# EAGLE library part XC3S250/500E-PQ208 (library SparkFun)
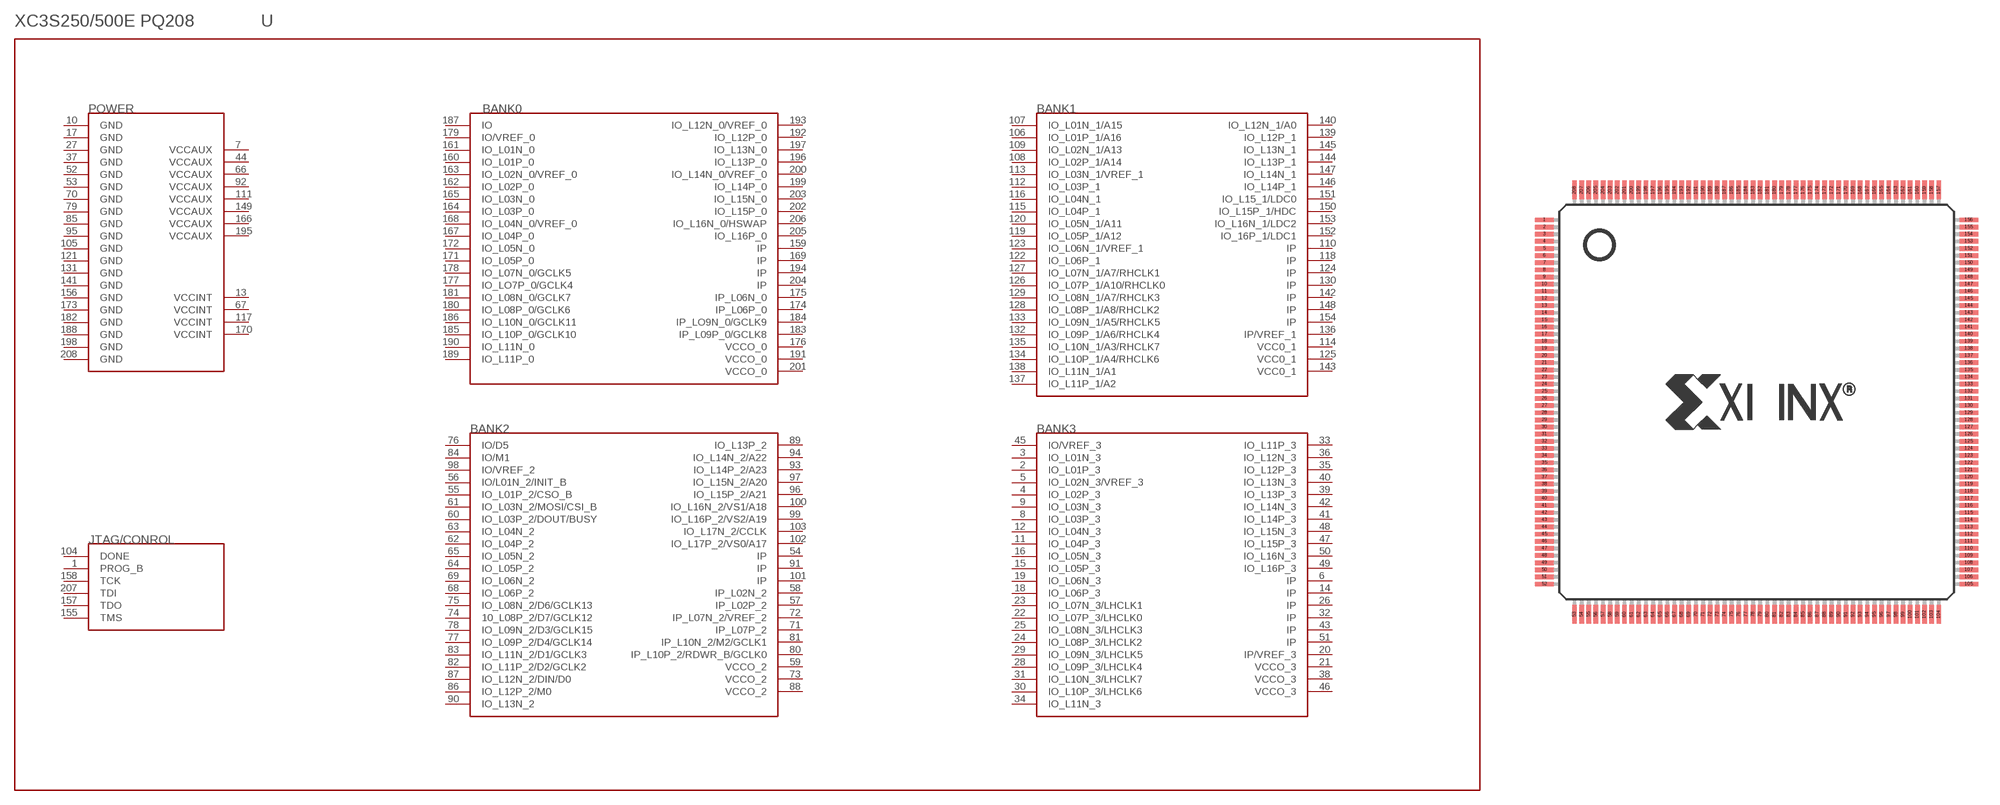
[diagram p112: symbol with the pads of PQ208; footprint PQ208]

Designator prefix -

## XC3S250/500E-PQ208  [PQ208]
1  PROG_B
2  IO_L01P_3
3  IO_L01N_3
4  IO_L02P_3
5  IO_L02N_3/VREF_3
6  IP
7  VCCAUX
8  IO_L03P_3
9  IO_L03N_3
10  GND
11  IO_L04P_3
12  IO_L04N_3
13  VCCINT
14  IP
15  IO_L05P_3
16  IO_L05N_3
17  GND
18  IO_L06P_3
19  IO_L06N_3
20  IP/VREF_3
21  VCCO_3
22  IO_L07P_3/LHCLK0
23  IO_L07N_3/LHCLK1
24  IO_L08P_3/LHCLK2
25  IO_L08N_3/LHCLK3
26  IP
27  GND
28  IO_L09P_3/LHCLK4
29  IO_L09N_3/LHCLK5
30  IO_L10P_3/LHCLK6
31  IO_L10N_3/LHCLK7
32  IP
33  IO_L11P_3
34  IO_L11N_3
35  IO_L12P_3
36  IO_L12N_3
37  GND
38  VCCO_3
39  IO_L13P_3
40  IO_L13N_3
41  IO_L14P_3
42  IO_L14N_3
43  IP
44  VCCAUX
45  IO/VREF_3
46  VCCO_3
47  IO_L15P_3
48  IO_L15N_3
49  IO_L16P_3
50  IO_L16N_3
51  IP
52  GND
53  GND
54  IP
55  IO_L01P_2/CSO_B
56  IO/L01N_2/INIT_B
57  IP_L02P_2
58  IP_L02N_2
59  VCCO_2
60  IO_L03P_2/DOUT/BUSY
61  IO_L03N_2/MOSI/CSI_B
62  IO_L04P_2
63  IO_L04N_2
64  IO_L05P_2
65  IO_L05N_2
66  VCCAUX
67  VCCINT
68  IO_L06P_2
69  IO_L06N_2
70  GND
71  IP_L07P_2
72  IP_L07N_2/VREF_2
73  VCCO_2
74  10_L08P_2/D7/GCLK12
75  IO_L08N_2/D6/GCLK13
76  IO/D5
77  IO_L09P_2/D4/GCLK14
78  IO_L09N_2/D3/GCLK15
79  GND
80  IP_L10P_2/RDWR_B/GCLK0
81  IP_L10N_2/M2/GCLK1
82  IO_L11P_2/D2/GCLK2
83  IO_L11N_2/D1/GCLK3
84  IO/M1
85  GND
86  IO_L12P_2/M0
87  IO_L12N_2/DIN/D0
88  VCCO_2
89  IO_L13P_2
90  IO_L13N_2
91  IP
92  VCCAUX
93  IO_L14P_2/A23
94  IO_L14N_2/A22
95  GND
96  IO_L15P_2/A21
97  IO_L15N_2/A20
98  IO/VREF_2
99  IO_L16P_2/VS2/A19
100  IO_L16N_2/VS1/A18
101  IP
102  IO_L17P_2/VS0/A17
103  IO_L17N_2/CCLK
104  DONE
105  GND
106  IO_L01P_1/A16
107  IO_L01N_1/A15
108  IO_L02P_1/A14
109  IO_L02N_1/A13
110  IP
111  VCCAUX
112  IO_L03P_1
113  IO_L03N_1/VREF_1
114  VCC0_1
115  IO_L04P_1
116  IO_L04N_1
117  VCCINT
118  IP
119  IO_L05P_1/A12
120  IO_L05N_1/A11
121  GND
122  IO_L06P_1
123  IO_L06N_1/VREF_1
124  IP
125  VCC0_1
126  IO_L07P_1/A10/RHCLK0
127  IO_L07N_1/A7/RHCLK1
128  IO_L08P_1/A8/RHCLK2
129  IO_L08N_1/A7/RHCLK3
130  IP
131  GND
132  IO_L09P_1/A6/RHCLK4
133  IO_L09N_1/A5/RHCLK5
134  IO_L10P_1/A4/RHCLK6
135  IO_L10N_1/A3/RHCLK7
136  IP/VREF_1
137  IO_L11P_1/A2
138  IO_L11N_1/A1
139  IO_L12P_1
140  IO_L12N_1/A0
141  GND
142  IP
143  VCC0_1
144  IO_L13P_1
145  IO_L13N_1
146  IO_L14P_1
147  IO_L14N_1
148  IP
149  VCCAUX
150  IO_L15P_1/HDC
151  IO_L15_1/LDC0
152  IO_16P_1/LDC1
153  IO_L16N_1/LDC2
154  IP
155  TMS
156  GND
157  TDO
158  TCK
159  IP
160  IO_L01P_0
161  IO_L01N_0
162  IO_L02P_0
163  IO_L02N_0/VREF_0
164  IO_L03P_0
165  IO_L03N_0
166  VCCAUX
167  IO_L04P_0
168  IO_L04N_0/VREF_0
169  IP
170  VCCINT
171  IO_L05P_0
172  IO_L05N_0
173  GND
174  IP_L06P_0
175  IP_L06N_0
176  VCCO_0
177  IO_LO7P_0/GCLK4
178  IO_L07N_0/GCLK5
179  IO/VREF_0
180  IO_L08P_0/GCLK6
181  IO_L08N_0/GCLK7
182  GND
183  IP_L09P_0/GCLK8
184  IP_LO9N_0/GCLK9
185  IO_L10P_0/GCLK10
186  IO_L10N_0/GCLK11
187  IO
188  GND
189  IO_L11P_0
190  IO_L11N_0
191  VCCO_0
192  IO_L12P_0
193  IO_L12N_0/VREF_0
194  IP
195  VCCAUX
196  IO_L13P_0
197  IO_L13N_0
198  GND
199  IO_L14P_0
200  IO_L14N_0/VREF_0
201  VCCO_0
202  IO_L15P_0
203  IO_L15N_0
204  IP
205  IO_L16P_0
206  IO_L16N_0/HSWAP
207  TDI
208  GND

## Footprint PQ208 (pad centres in mm)
smd 1.3 x 0.32: 1 -14.85,12.75; 2 -14.85,12.25; 3 -14.85,11.75; 4 -14.85,11.25; 5 -14.85,10.75; 6 -14.85,10.25; 7 -14.85,9.75; 8 -14.85,9.25; 9 -14.85,8.75; 10 -14.85,8.25; 11 -14.85,7.75; 12 -14.85,7.25; 13 -14.85,6.75; 14 -14.85,6.25; 15 -14.85,5.75; 16 -14.85,5.25; 17 -14.85,4.75; 18 -14.85,4.25; 19 -14.85,3.75; 20 -14.85,3.25; 21 -14.85,2.75; 22 -14.85,2.25; 23 -14.85,1.75; 24 -14.85,1.25; 25 -14.85,0.75; 26 -14.85,0.25; 27 -14.85,-0.25; 28 -14.85,-0.75; 29 -14.85,-1.25; 30 -14.85,-1.75; 31 -14.85,-2.25; 32 -14.85,-2.75; 33 -14.85,-3.25; 34 -14.85,-3.75; 35 -14.85,-4.25; 36 -14.85,-4.75; 37 -14.85,-5.25; 38 -14.85,-5.75; 39 -14.85,-6.25; 40 -14.85,-6.75; 41 -14.85,-7.25; 42 -14.85,-7.75; 43 -14.85,-8.25; 44 -14.85,-8.75; 45 -14.85,-9.25; 46 -14.85,-9.75; 47 -14.85,-10.25; 48 -14.85,-10.75; 49 -14.85,-11.25; 50 -14.85,-11.75; 51 -14.85,-12.25; 52 -14.85,-12.75; 105 14.85,-12.75; 106 14.85,-12.25; 107 14.85,-11.75; 108 14.85,-11.25; 109 14.85,-10.75; 110 14.85,-10.25; 111 14.85,-9.75; 112 14.85,-9.25; 113 14.85,-8.75; 114 14.85,-8.25; 115 14.85,-7.75; 116 14.85,-7.25; 117 14.85,-6.75; 118 14.85,-6.25; 119 14.85,-5.75; 120 14.85,-5.25; 121 14.85,-4.75; 122 14.85,-4.25; 123 14.85,-3.75; 124 14.85,-3.25; 125 14.85,-2.75; 126 14.85,-2.25; 127 14.85,-1.75; 128 14.85,-1.25; 129 14.85,-0.75; 130 14.85,-0.25; 131 14.85,0.25; 132 14.85,0.75; 133 14.85,1.25; 134 14.85,1.75; 135 14.85,2.25; 136 14.85,2.75; 137 14.85,3.25; 138 14.85,3.75; 139 14.85,4.25; 140 14.85,4.75; 141 14.85,5.25; 142 14.85,5.75; 143 14.85,6.25; 144 14.85,6.75; 145 14.85,7.25; 146 14.85,7.75; 147 14.85,8.25; 148 14.85,8.75; 149 14.85,9.25; 150 14.85,9.75; 151 14.85,10.25; 152 14.85,10.75; 153 14.85,11.25; 154 14.85,11.75; 155 14.85,12.25; 156 14.85,12.75
smd 0.32 x 1.3: 53 -12.75,-14.85; 54 -12.25,-14.85; 55 -11.75,-14.85; 56 -11.25,-14.85; 57 -10.75,-14.85; 58 -10.25,-14.85; 59 -9.75,-14.85; 60 -9.25,-14.85; 61 -8.75,-14.85; 62 -8.25,-14.85; 63 -7.75,-14.85; 64 -7.25,-14.85; 65 -6.75,-14.85; 66 -6.25,-14.85; 67 -5.75,-14.85; 68 -5.25,-14.85; 69 -4.75,-14.85; 70 -4.25,-14.85; 71 -3.75,-14.85; 72 -3.25,-14.85; 73 -2.75,-14.85; 74 -2.25,-14.85; 75 -1.75,-14.85; 76 -1.25,-14.85; 77 -0.75,-14.85; 78 -0.25,-14.85; 79 0.25,-14.85; 80 0.75,-14.85; 81 1.25,-14.85; 82 1.75,-14.85; 83 2.25,-14.85; 84 2.75,-14.85; 85 3.25,-14.85; 86 3.75,-14.85; 87 4.25,-14.85; 88 4.75,-14.85; 89 5.25,-14.85; 90 5.75,-14.85; 91 6.25,-14.85; 92 6.75,-14.85; 93 7.25,-14.85; 94 7.75,-14.85; 95 8.25,-14.85; 96 8.75,-14.85; 97 9.25,-14.85; 98 9.75,-14.85; 99 10.25,-14.85; 100 10.75,-14.85; 101 11.25,-14.85; 102 11.75,-14.85; 103 12.25,-14.85; 104 12.75,-14.85; 157 12.75,14.85; 158 12.25,14.85; 159 11.75,14.85; 160 11.25,14.85; 161 10.75,14.85; 162 10.25,14.85; 163 9.75,14.85; 164 9.25,14.85; 165 8.75,14.85; 166 8.25,14.85; 167 7.75,14.85; 168 7.25,14.85; 169 6.75,14.85; 170 6.25,14.85; 171 5.75,14.85; 172 5.25,14.85; 173 4.75,14.85; 174 4.25,14.85; 175 3.75,14.85; 176 3.25,14.85; 177 2.75,14.85; 178 2.25,14.85; 179 1.75,14.85; 180 1.25,14.85; 181 0.75,14.85; 182 0.25,14.85; 183 -0.25,14.85; 184 -0.75,14.85; 185 -1.25,14.85; 186 -1.75,14.85; 187 -2.25,14.85; 188 -2.75,14.85; 189 -3.25,14.85; 190 -3.75,14.85; 191 -4.25,14.85; 192 -4.75,14.85; 193 -5.25,14.85; 194 -5.75,14.85; 195 -6.25,14.85; 196 -6.75,14.85; 197 -7.25,14.85; 198 -7.75,14.85; 199 -8.25,14.85; 200 -8.75,14.85; 201 -9.25,14.85; 202 -9.75,14.85; 203 -10.25,14.85; 204 -10.75,14.85; 205 -11.25,14.85; 206 -11.75,14.85; 207 -12.25,14.85; 208 -12.75,14.85